# EAGLE library part NHD-12864WG-BTMI-V#N (library NHD-12864WG-BTMI-V#N)
LCD MOD GRAPH 128X64 WH TRANSM Source: Datasheet <http://www.newhavendisplay.com/specs/NHD-12864WG-BTMI-VN.pdf>
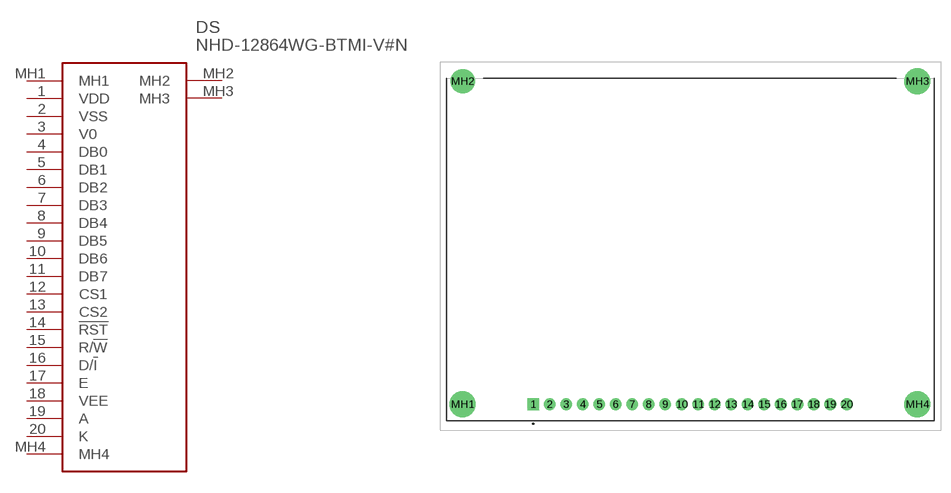
[diagram p0: symbol with the pads of NHD12864WGBTMIVN; footprint NHD12864WGBTMIVN]

Designator prefix DS

## NHD-12864WG-BTMI-V#N (Description: LCD MOD GRAPH 128X64 WH TRANSM; Height: 8.9mm; Manufacturer_Name: Newhaven Display; Manufacturer_Part_Number: NHD-12864WG-BTMI-V#N; Mouser_Part_Number: 763-12864WG-BTMI-VN; Mouser_Price-Stock: https://www.mouser.co.uk/ProductDetail/Newhaven-Display/NHD-12864WG-BTMI-VN?qs=Vb5qD4CGh4lOc3Gh14yA5A%3D%3D)  [NHD12864WGBTMIVN]
1  VDD
2  VSS
3  V0
4  DB0
5  DB1
6  DB2
7  DB3
8  DB4
9  DB5
10  DB6
11  DB7
12  CS1
13  CS2
14  !RST
15  R/!W
16  D/!I
17  E
18  VEE
19  A
20  K
MH1  MH1
MH2  MH2
MH3  MH3
MH4  MH4

## Footprint NHD12864WGBTMIVN (pad centres in mm)
NHD-12864WG-BTMI-V#N-2
drill 1 pad 1.8 square: 1 0,0
drill 1 pad 1.8: 2 2.54,0; 3 5.08,0; 4 7.62,0; 5 10.16,0; 6 12.7,0; 7 15.24,0; 8 17.78,0; 9 20.32,0; 10 22.86,0; 11 25.4,0; 12 27.94,0; 13 30.48,0; 14 33.02,0; 15 35.56,0; 16 38.1,0; 17 40.64,0; 18 43.18,0; 19 45.72,0; 20 48.26,0
drill 2.5 pad 4: MH1 -10.87,0; MH3 59.13,49.7; MH4 59.13,0
drill 2.5 pad 3.75: MH2 -10.87,49.7